# Altium schematic symbol library L-PE-N_Connector_C-14.SchLib: 1 symbol
Pins are listed as number, name and electrical type; pins without a type are passive.

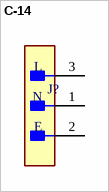
[diagram p0: symbol C-14]

## C-14
designator J?, comment L-PE-N  (value not drawn)
footprint L-PE-N_Connector_C-14
footprint L-PE-N_Connector_C-14_Qualtec
pins: 1 N, 2 E, 3 L